# EAGLE library part BMP390 (library BMP388)
P-Sensor SPI I2C 1, 25 Bar SMD
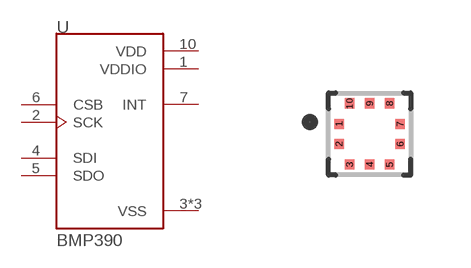
[diagram p1: symbol with the pads of PQFN50P200X200X80-10N; footprint PQFN50P200X200X80-10N]

Designator prefix U

## BMP390 (AVAILABILITY: Unavailable; DESCRIPTION: Pressure Sensor 4.35PSI ~ 18.13PSI _30kPa ~ 125kPa_ Absolute 10-WFLGA; MF: Bosch Sensortec; MP: BMP390; PACKAGE: WFLGA-10 Bosch Tools; PRICE: None)  [PQFN50P200X200X80-10N]
1  VDDIO  pwr
2  SCK  in
3  VSS  pwr
4  SDI
5  SDO
6  CSB  in
7  INT  out
8  VSS  pwr
9  VSS  pwr
10  VDD  pwr

## Footprint PQFN50P200X200X80-10N (pad centres in mm)
smd 0.254 x 0.254: 1 -0.765,0.25; 2 -0.765,-0.25; 3 -0.5,-0.765; 4 0,-0.765; 5 0.5,-0.765; 6 0.765,-0.25; 7 0.765,0.25; 8 0.5,0.765; 9 0,0.765; 10 -0.5,0.765